# Altium integrated library Quadro.IntLib: 19 symbols
Pins are listed as number, name and electrical type; pins without a type are passive.

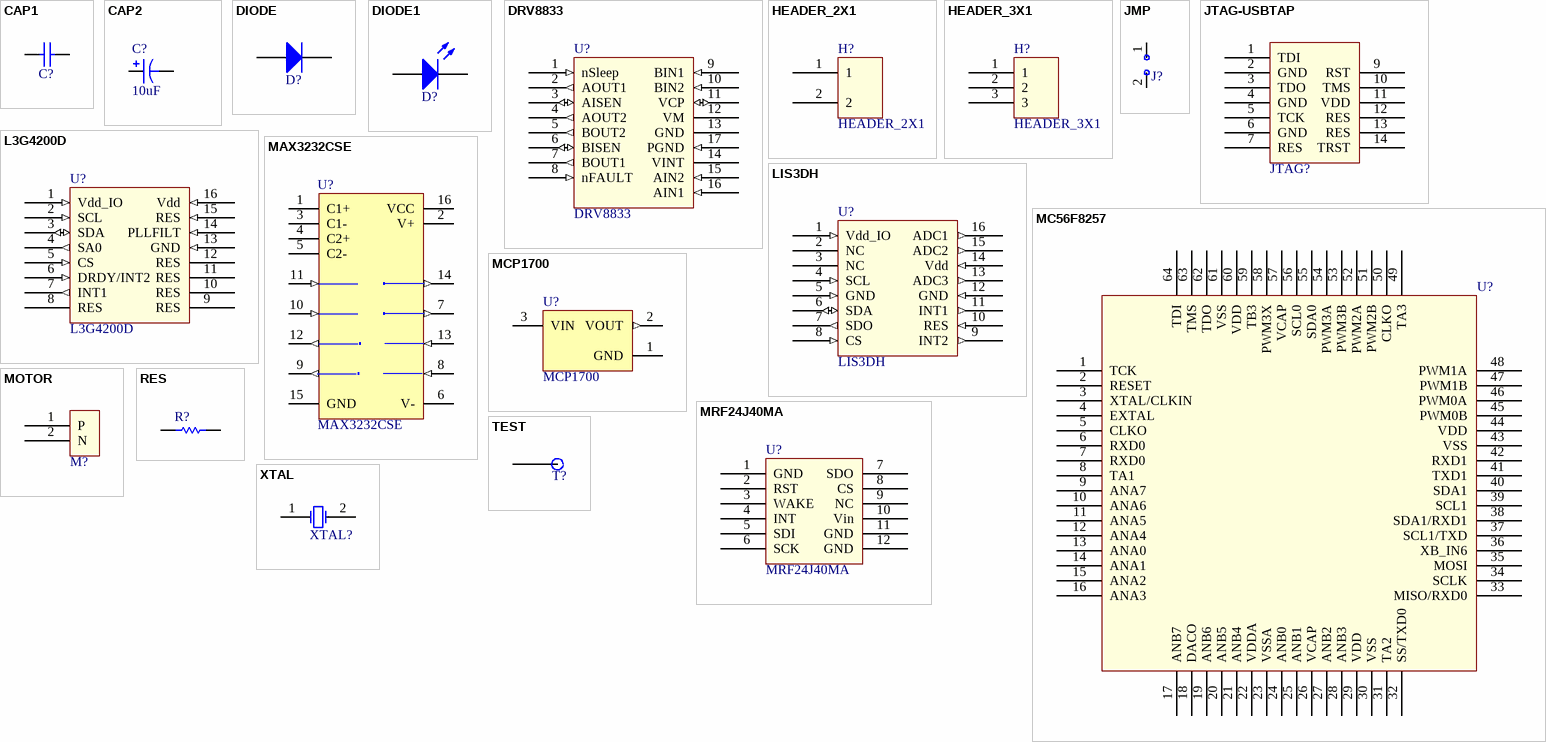
[diagram p0: symbols CAP1 to XTAL]

## CAP1
designator C?
Capacitor
footprint C1206
footprint C0805
pins: 1, 2

## CAP2
designator C?, comment 10uF
Polarized capacitor
footprint CAP
pins: 1, 2

## DIODE
designator D?  (value not drawn)
footprint D1206
pins: 1 K, 2 A

## DIODE1
designator D?  (value not drawn)
Typical INFRARED GaAs LED; Published: 8-Jun-2000; LatestRevisionDate: 08-Jul-2005; LatestRevisionNote: Mech Layer 1 removed.; PackageReference: LED-0; Publisher: Altium Limited
footprint LED0805
pins: 1 K, 2 A

## DRV8833
designator U?
Dual H-Bridge Motor Driver
footprint R_PDSO_G16
pins: 1 nSleep (in), 2 AOUT1 (out), 3 AISEN (io), 4 AOUT2 (out) "AISEN", 5 BOUT2 (out) "AISEN", 6 BISEN (io), 7 BOUT1 (out), 8 nFAULT (in), 9 BIN1 (in), 10 BIN2 (in), 11 VCP (io), 12 VM, 13 GND, 14 VINT, 15 AIN2 (in), 16 AIN1 (in), 17 PGND (in)

## HEADER_2X1
designator H?
Header 2x1
footprint HDR2X1
pins: 1, 2

## HEADER_3X1
designator H?
Header 3x1
footprint HDR3X1
pins: 1 "Power supply for I/O pins", 2 "Power supply for I/O pins", 3 "Power supply for I/O pins"

## JMP
designator J?  (value not drawn)
footprint DIODE
pins: 1, 2

## JTAG-USBTAP
designator JTAG?  (value not drawn)
JTAG connector to Freescale's USB-TAP
footprint USB-TAP
pins: 1 TDI, 2 GND, 3 TDO, 4 GND, 5 TCK, 6 GND, 7 RES, 9 RST, 10 TMS, 11 VDD, 12 RES, 13 RES, 14 TRST

## L3G4200D
designator U?
3-axis gyro by ST
footprint LGA16-A (QFN, 16-Leads, Body 4,0x4,0mm (max), Pitch 0,50mm, IPC Medium Density)
pins: 1 Vdd_IO (in) "Power supply for I/O pins", 2 SCL (in) "I  2C serial clock (SCL)  SPI serial port clock (SPC)", 3 SDA (io) "I  2C serial data (SDA)  SPI serial data input (SDI)  3-wire interface serial data output (SDO)", 4 SA0 (out) "SPI serial data output (SDO)  I  2C less significant bit of the device address (SA0)", 5 CS (in) "SPI enable  I  2C/SPI mode selection (1: I  2C mode; 0: SPI enabled)", 6 DRDY/INT2 (in), 7 INT1 (out) "Inertial interrupt 1", 8 RES "Connect to GND", 9 RES "Connect to GND", 10 RES "Connect to GND", 11 RES "Connect to GND", 12 RES "Connect to GND", 13 GND (in), 14 PLLFILT (in) "Phase-locked loop filter", 15 RES (in) "Connect to Vdd", 16 Vdd (in) "Power supply"

## LIS3DH
designator U?
3-Axis Accelerometer by ST; Data Sheet: LIS3DH.PDF
footprint LGA-16
pins: 1 Vdd_IO (in) "Power supply for I/O pins", 2 NC, 3 NC, 4 SCL (in) "I  2C serial clock (SCL)  SPI serial port clock (SPC)", 5 GND (in), 6 SDA (io) "I  2C serial data (SDA)  SPI serial data input (SDI)  3-wire interface serial data output (SDO)", 7 SDO (out) "SPI serial data output (SDO)  I  2C less significant bit of the device address (SA0)", 8 CS (in) "SPI enable  I  2C/SPI mode selection (1: I  2C mode; 0: SPI enabled)", 9 INT2 (out) "Inertial interrupt 2", 10 RES (in) "Connect to GND", 11 INT1 (out) "Inertial interrupt 1", 12 GND (in), 13 ADC3 (out) "Analog to digital converter input 3", 14 Vdd (in) "Power supply", 15 ADC2 (out) "Analog to digital converter input 2", 16 ADC1 (out) "Analog to digital converter input 3"

## MAX3232CSE
designator U?
3.0V TO 5.5V, Low-Power, up to 1Mbps, True RS-232 Transceiver Using Four 0.1µF External Capacitor; Published: 16-Jan-2001; LatestRevisionDate: 13-Apr-2006; LatestRevisionNote: IPC-7351 Footprint Added.; DatasheetVersion: Mar-1999; PackageReference: NSO16; Publisher: Altium Limited; PackageDescription: 16-Pin Small Outline Integrated Circuit 1.27 mm Pitch; Code_JEDEC: MS-012-AC; Code_IPC: SOIC127P600-16; ComponentLink1Description: Manufacturer Link; ComponentLink1URL: http://www.maxim-ic.com/; ComponentLink2Description: Datasheet; ComponentLink2URL: http://pdfserv.maxim-ic.com/en/ds/MAX3222-MAX3241.pdf
footprint NSO16_N (SOIC, 16-Leads, Body 9.9x3.9mm, Pitch 1.27mm, IPC Medium Density)
footprint NSO16_L (SOIC, 16-Leads, Body 9.9x3.9mm, Pitch 1.27mm, IPC High Density)
footprint NSO16_M (SOIC, 16-Leads, Body 9.9x3.9mm, Pitch 1.27mm, IPC Low Density)
3D model NSO16 (16-Pin Small Outline Integrated Circuit 1.27 mm Pitch)
pins: 1 C1+, 2 V+ (power), 3 C1-, 4 C2+, 5 C2-, 6 V- (power), 7 T2OUT (out), 8 R2IN (in), 9 R2OUT (out), 10 T2IN (in), 11 T1IN (in), 12 R1OUT (out), 13 R1IN (in), 14 T1OUT (out), 15 GND (power), 16 VCC (power)

## MC56F8257
designator U?  (value not drawn)
footprint LQFP64 (Thin QFP, 64-Leads, Body 10x10mm, Pitch 0.5mm, IPC High Density)
pins: 1 TCK, 2 RESET, 3 XTAL/CLKIN, 4 EXTAL, 5 CLKO, 6 RXD0, 7 RXD0, 8 TA1, 9 ANA7, 10 ANA6, 11 ANA5, 12 ANA4, 13 ANA0, 14 ANA1, 15 ANA2, 16 ANA3, 17 ANB7, 18 DACO, 19 ANB6, 20 ANB5, 21 ANB4, 22 VDDA, 23 VSSA, 24 ANB0, 25 ANB1, 26 VCAP, 27 ANB2, 28 ANB3, 29 VDD, 30 VSS, 31 TA2, 32 SS/TXD0, 33 MISO/RXD0, 34 SCLK, 35 MOSI, 36 XB_IN6, 37 SCL1/TXD, 38 SDA1/RXD1, 39 SCL1, 40 SDA1, 41 TXD1, 42 RXD1, 43 VSS, 44 VDD, 45 PWM0B, 46 PWM0A, 47 PWM1B, 48 PWM1A, 49 TA3, 50 CLKO, 51 PWM2B, 52 PWM2A, 53 PWM3B, 54 PWM3A, 55 SDA0, 56 SCL0, 57 VCAP, 58 PWM3X, 59 TB3, 60 VDD, 61 VSS, 62 TDO, 63 TMS, 64 TDI

## MCP1700
designator U?
Linear voltage requaltor by MicroChip
footprint SOT-23_M (SOT23, 3-Leads, Body 3.0x2.6mm (max), Pitch 0.95mm, IPC Medium Density)
pins: 1 GND (power), 2 VOUT (out), 3 VIN (power)

## MOTOR
designator M?, comment Motor  (value not drawn)
footprint GDC612
pins: 1 P, 2 N

## MRF24J40MA
designator U?
MRF24J40MA tranceiver board
footprint MRF24J40MA
pins: 1 GND, 2 RST, 3 WAKE, 4 INT, 5 SDI, 6 SCK, 7 SDO, 8 CS, 9 NC, 10 Vin, 11 GND, 12 GND

## RES
designator R?
Resistor
footprint R1206
footprint R0805
pins: 1, 2

## TEST
designator T?, comment TestPoint  (value not drawn)
Test signal
footprint HDR1X1
pins: 1

## XTAL
designator XTAL?  (value not drawn)
footprint OSC_SMD_CRYS
pins: 1 OSC1, 2 OSC2